# Altium footprint library MC-IMX6Q-BOARD.PcbLib: 56 footprints (part 3 of 4)
Each footprint in its own frame and in the unit in brackets; x right, y up, seen from the top. Pads: shape width x height; smd on the part's side, far side on the other; paste and mask are expansions set on the pad; w line width, h text height; cw(c..) or ccw(c..) is an arc to the next point about the centre after c.
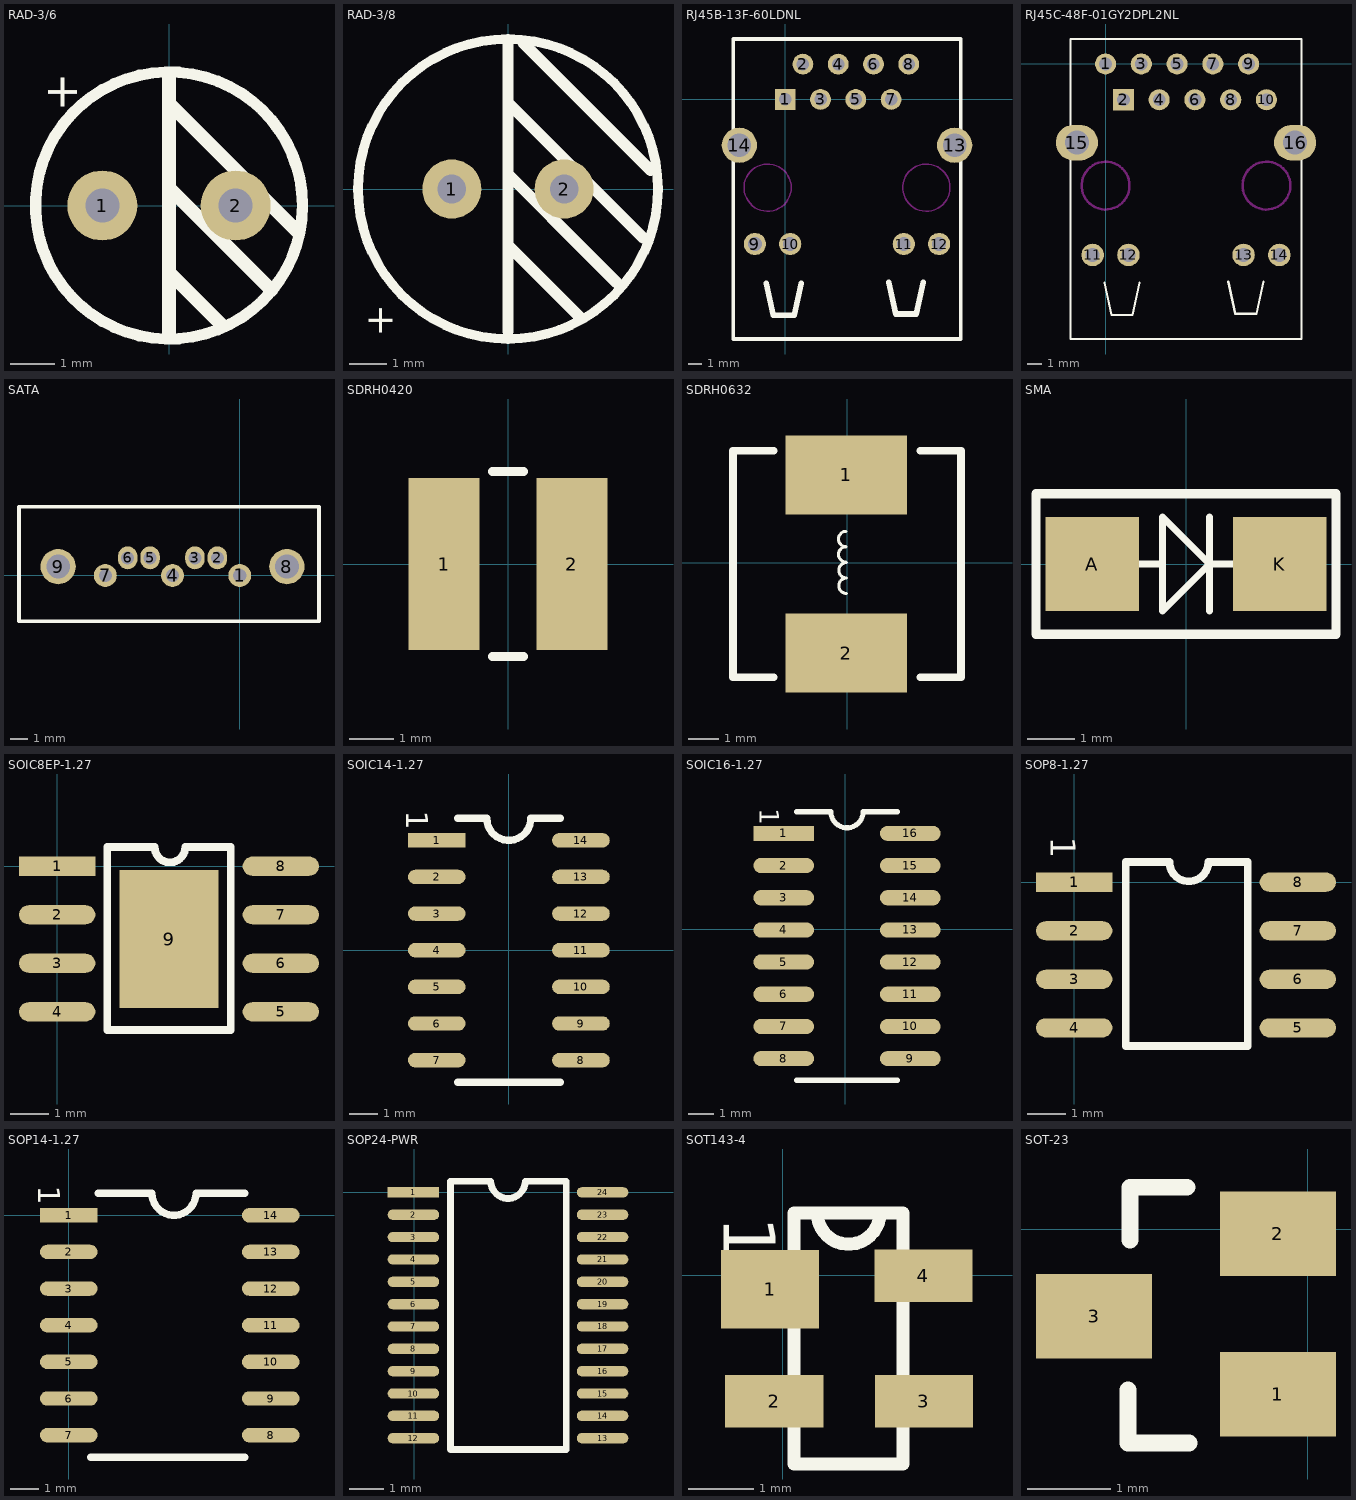
[diagram p2: the footprints below, top view; thin cyan lines are the x and y axes]

## RAD-3/6 [mil]
height 53.15
pads (2):
  round 62 hole 30: 1(-59,0) 2(59,0)
Top Overlay:
  circle w10: c0,0 r118.11
  lines w12: 0,-114.17 0,114.17 ; 0,-59.05 47.24,-106.3 ; 0,15.75 90.55,-74.8 ; 0,90.55 114.17,-23.62
  text "+" at -106.67,117.32 h30

## RAD-3/8 [mil]
height 53.15
pads (2):
  round 62 hole 30: 1(-59,0) 2(59,0)
Top Overlay:
  circle w10: c0,0 r157.48
  lines w12: 0,-149.61 0,-114.17 0,114.17 0,153.54 ; 0,-59.05 47.24,-106.3 74.8,-133.86 ; 0,15.75 90.55,-74.8 114.17,-98.42 ; 0,90.55 114.17,-23.62 141.73,-51.18 ; 15.75,153.54 149.61,19.68
  text "+" at -146,-121 h30

## RJ45B-13F-60LDNL [mm]
height 1.35
pads (14):
  rect 1.5x1.5 hole 0.9: 1(0,0)
  round 1.5 hole 0.9: 2(1.27,2.54) 3(2.54,0) 4(3.81,2.54) 5(5.08,0) 6(6.35,2.54) 7(7.62,0) 8(8.89,2.54)
  round 1.6 hole 1: 9(-2.185,-10.41) 10(0.355,-10.41) 11(8.535,-10.41) 12(11.075,-10.41)
  round 2.54 hole 1.7: 13(12.195,-3.3) 14(-3.305,-3.3)
Top Overlay:
  lines w0.254: -3.755,-17.25 -3.755,4.35 12.645,4.35 12.645,-17.25 -3.755,-17.25
  lines w0.4: -1.355,-13.25 -0.855,-15.55 0.645,-15.55 1.145,-13.25 ; 7.445,-13.15 7.945,-15.45 9.445,-15.45 9.945,-13.15
Keep-Out Layer:
  circle w0.1: c10.16,-6.35 r1.7
  circle w0.1: c-1.27,-6.35 r1.7

## RJ45C-48F-01GY2DPL2NL [mm]
height 1.35
pads (16):
  round 1.5 hole 0.9: 1(0,0) 3(2.54,0) 4(3.81,-2.54) 5(5.08,0) 6(6.35,-2.54) 7(7.62,0) 8(8.89,-2.54) 9(10.16,0) 10(11.43,-2.54)
  rect 1.5x1.5 hole 0.9: 2(1.27,-2.54)
  round 1.6 hole 1: 11(-0.915,-13.565) 12(1.625,-13.565) 13(9.805,-13.565) 14(12.345,-13.565)
  oval 3x2.54 hole 1.7: 15(-2.035,-5.59) 16(13.465,-5.59)
Top Overlay:
  lines w0.152: -0.085,-15.54 0.415,-17.84 1.915,-17.84 2.415,-15.54 ; 8.715,-15.44 9.215,-17.74 10.715,-17.74 11.215,-15.44 ; -2.485,-19.537 13.915,-19.537 13.915,1.774 -2.485,1.774 -2.485,-19.537
Keep-Out Layer:
  circle w0.178: c11.43,-8.64 r1.7
  circle w0.178: c0,-8.64 r1.7

## SATA [mm]
height 1.35
pads (9):
  round 1.3 hole 0.74: 1(0,0) 4(-3.81,0) 7(-7.62,0)
  oval 1.1x1.3 hole 0.74: 2(-1.27,1) 3(-2.54,1) 5(-5.08,1) 6(-6.35,1)
  round 2 hole 1.35: 8(2.67,0.5) 9(-10.29,0.5)
Top Overlay:
  lines w0.2: -12.51,-2.6 4.49,-2.6 4.49,3.9 -12.51,3.9 -12.51,-2.6

## SDRH0420 [mm]
pads (2):
  rect 1.6x3.9 smd: 1(-1.45,0) 2(1.45,0)
Top Overlay:
  lines w0.2: -0.35,-2.1 0.35,-2.1 ; -0.35,2.1 0.35,2.1

## SDRH0632 [mm]
height 1.35
pads (2):
  rect 4x2.6 smd: 1(-0.025,2.896) 2(-0.025,-2.972)
Top Overlay:
  lines w0.1: -0.025,0.022 cw(c-0.025,0.276) -0.025,0.53 cw(c-0.025,0.784) -0.025,1.038 ; -0.016,-1.008 cw(c-0.016,-0.754) -0.016,-0.5 cw(c-0.016,-0.246) -0.016,0.008
  lines w0.254: -2.413,-3.759 -3.75,-3.759 -3.75,3.683 -2.413,3.683 ; 2.413,-3.759 3.75,-3.759 3.75,3.683 2.413,3.683

## SMA [mm]
height 1.35
pads (2):
  rect 2x2 smd: A(-2,0) K(2,0)
Top Overlay:
  lines w0.15: -1,0 -0.5,0 ; 0.5,-1 0.5,1 ; 1,0 0.5,0 ; 0.5,0 -0.5,-1 -0.5,1 0.5,0
  lines w0.2: -3.2,-1.5 3.2,-1.5 3.2,1.5 -3.2,1.5 -3.2,-1.5

## SOIC8EP-1.27 [mm]
height 1.35
pads (9):
  rect 2x0.5 smd: 1(0,0)
  oval 2x0.5 smd: 2(0,-1.27) 3(0,-2.54) 4(0,-3.81) 5(5.85,-3.81) 6(5.85,-2.54) 7(5.85,-1.27) 8(5.85,0)
  rect 2.6x3.6 smd: 9(2.925,-1.905)
Top Overlay:
  lines w0.203: 1.311,-4.289 1.311,0.5 2.55,0.5 ccw(c2.95,0.5) 3.35,0.5 4.539,0.5 4.539,-4.289 1.346,-4.289

## SOIC14-1.27 [mm]
height 1.35
pads (14):
  rect 2x0.5 smd: 1(-2.5,3.81)
  oval 2x0.5 smd: 2(-2.5,2.54) 3(-2.5,1.27) 4(-2.5,0) 5(-2.5,-1.27) 6(-2.5,-2.54) 7(-2.5,-3.81) 8(2.5,-3.81) 9(2.5,-2.54) 10(2.5,-1.27) 11(2.5,0) 12(2.5,1.27) 13(2.5,2.54) 14(2.5,3.81)
Top Overlay:
  lines w0.254: -1.778,-4.572 1.778,-4.572 ; -1.778,4.572 -0.762,4.572 ccw(c0,4.572) 0.762,4.572 1.778,4.572
  text "1" at -3.556,4.826 h0.76

## SOIC16-1.27 [mm]
height 1.35
pads (16):
  rect 2.4x0.6 smd: 1(-2.432,3.787)
  oval 2.4x0.6 smd: 2(-2.432,2.517) 3(-2.432,1.247) 4(-2.432,-0.023) 5(-2.432,-1.293) 6(-2.432,-2.563) 7(-2.432,-3.833) 8(-2.432,-5.103) 9(2.568,-5.103) 10(2.568,-3.833) 11(2.568,-2.563) 12(2.568,-1.293) 13(2.568,-0.023) 14(2.568,1.247) 15(2.568,2.517) 16(2.568,3.787)
Top Overlay:
  lines w0.2: -1.932,-5.958 2.068,-5.958 ; -1.932,4.642 -0.567,4.642 ccw(c0.068,4.642) 0.703,4.642 2.068,4.642
  text "1" at -3.372,4.777 h0.76

## SOP8-1.27 [mm]
height 1.35
pads (8):
  rect 2x0.5 smd: 1(0,0)
  oval 2x0.5 smd: 2(0,-1.27) 3(0,-2.54) 4(0,-3.81) 5(5.85,-3.81) 6(5.85,-2.54) 7(5.85,-1.27) 8(5.85,0)
Top Overlay:
  lines w0.203: 2.471,0.529 1.346,0.529 1.346,-4.289 4.539,-4.289 4.539,0.529 3.508,0.529 cw(c3,0.529) 2.492,0.529
  text "1" at -0.608,1.188 h0.65

## SOP14-1.27 [mm]
height 1.35
pads (14):
  rect 2x0.5 smd: 1(0,0)
  oval 2x0.5 smd: 2(0,-1.27) 3(0,-2.54) 4(0,-3.81) 5(0,-5.08) 6(0,-6.35) 7(0,-7.62) 8(7,-7.62) 9(7,-6.35) 10(7,-5.08) 11(7,-3.81) 12(7,-2.54) 13(7,-1.27) 14(7,0)
Top Overlay:
  lines w0.254: 0.762,-8.382 1.905,-8.382 5.461,-8.382 6.096,-8.382 ; 1.016,0.762 1.905,0.762 ; 1.865,0.762 2.881,0.762 ccw(c3.643,0.762) 4.405,0.762 5.421,0.762 ; 5.461,0.762 6.096,0.762
  text "1" at -1.056,1.016 h0.76

## SOP24-PWR [mm]
height 1.35
pads (24):
  rect 1.5x0.3 smd: 1(-0.025,0)
  oval 1.5x0.3 smd: 2(-0.025,-0.65) 3(-0.025,-1.3) 4(-0.025,-1.95) 5(-0.025,-2.6) 6(-0.025,-3.25) 7(-0.025,-3.9) 8(-0.025,-4.55) 9(-0.025,-5.2) 10(-0.025,-5.85) 11(-0.025,-6.5) 12(-0.025,-7.15) 13(5.475,-7.15) 14(5.475,-6.5) 15(5.475,-5.85) 16(5.475,-5.2) 17(5.475,-4.55) 18(5.475,-3.9) 19(5.475,-3.25) 20(5.475,-2.6) 21(5.475,-1.95) 22(5.475,-1.3) 23(5.475,-0.65) 24(5.475,0)
Top Overlay:
  lines w0.2: 1.05,-7.475 4.42,-7.475 4.42,0.325 3.225,0.325 cw(c2.725,0.325) 2.225,0.325 1.05,0.325 1.05,-7.475

## SOT143-4 [mm]
pads (4):
  rect 1.5x1.2 smd: 1(-0.19,-0.215)
  rect 1.5x0.8 smd: 2(-0.126,-1.927) 3(2.162,-1.927) 4(2.154,-0.007)
Top Overlay:
  lines w0.2: 0.175,-2.887 1.845,-2.887 1.845,0.953 0.53,0.953 ccw(c1.01,0.953) 1.49,0.953 0.175,0.953 0.175,-2.887
  text "1" at -0.9,0.9 h0.8

## SOT-23 [mil]
pads (3):
  rect 55x40 smd: 1(-14.05,-78.06) 2(-14.05,-2.06) 3(-101.05,-41.06)
Top Overlay:
  lines w8: -85.05,-76.06 -85.05,-101.06 -56.05,-101.06 ; -84.05,-5.06 -84.05,18.94 ; -84.05,19.94 -57.05,19.94